# EAGLE library part WEMOS-D1-MINI (library ali_modules)
WeMos.cc D1 mini ESP8266 module
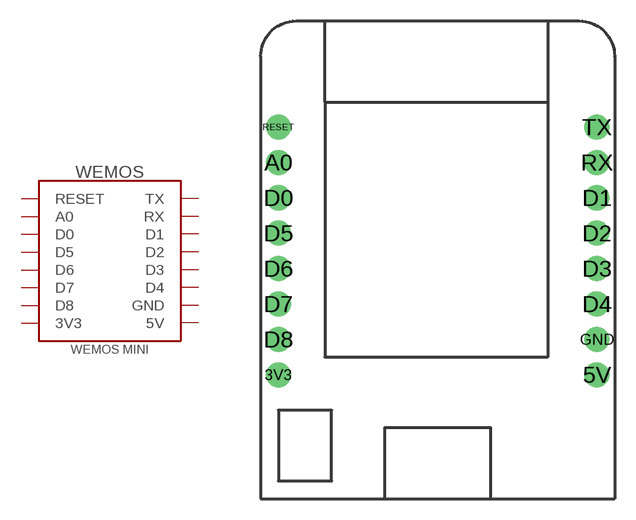
[diagram p16: symbol with the pads of WEMOS-D1-MINI; footprint WEMOS-D1-MINI]

Designator prefix WEMOS

## WEMOS-D1-MINI  [WEMOS-D1-MINI]
3V3  3V3
5V  5V
A0  A0
D0  D0
D1  D1
D2  D2
D3  D3
D4  D4
D5  D5
D6  D6
D7  D7
D8  D8
GND  GND
RESET  RESET
RX  RX
TX  TX

## Footprint WEMOS-D1-MINI (pad centres in mm)
WeMos.cc D1 mini ESP8266 module
drill 1 pad 1.8: 3V3 -11.43,-8.26; 5V 11.43,-8.26; A0 -11.43,6.98; D0 -11.43,4.44; D1 11.43,4.44; D2 11.43,1.9; D3 11.43,-0.64; D4 11.43,-3.18; D5 -11.43,1.9; D6 -11.43,-0.64; D7 -11.43,-3.18; D8 -11.43,-5.72; GND 11.43,-5.72; RESET -11.43,9.52; RX 11.43,6.98; TX 11.43,9.52